# Altium footprint library 43045-1600.PcbLib: 1 footprints
Each footprint in its own frame and in the unit in brackets; x right, y up, seen from the top. Pads: shape width x height; smd on the part's side, far side on the other; paste and mask are expansions set on the pad; w line width, h text height; cw(c..) or ccw(c..) is an arc to the next point about the centre after c.
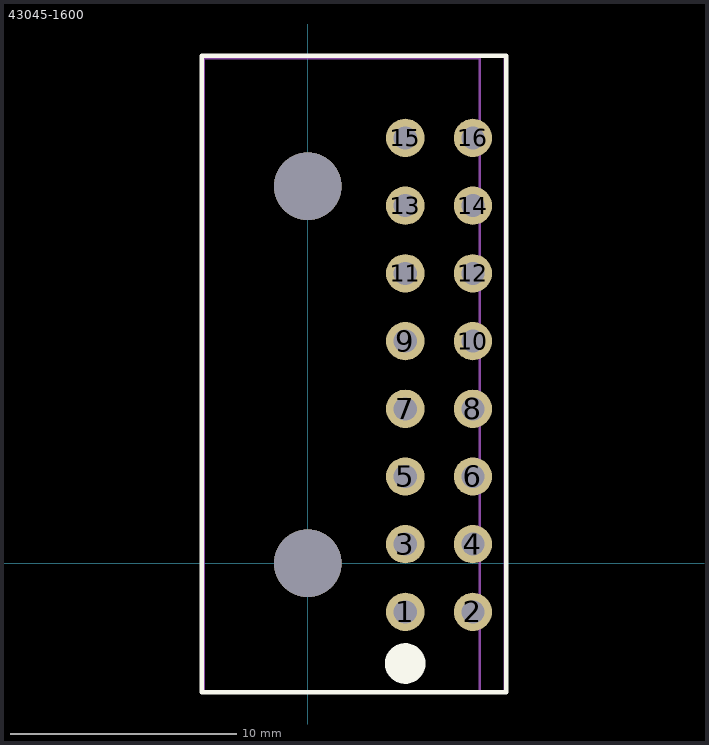
[diagram p0: the footprint, top view; thin cyan lines are the x and y axes]

## 43045-1600 [mm] "Molex Micro-Fit 3.0 2x8"
pads (16):
  round 1.7 hole 1.02: 1(4.32,-2.16) 2(7.32,-2.16) 3(4.32,0.84) 4(7.32,0.84) 5(4.32,3.84) 6(7.32,3.84) 7(4.32,6.84) 8(7.32,6.84) 9(4.32,9.84) 10(7.32,9.84) 11(4.32,12.84) 12(7.32,12.84) 13(4.32,15.84) 14(7.32,15.84) 15(4.32,18.84) 16(7.32,18.84)
via 0,0 diameter 3 hole 3
via 0,16.7 diameter 3 hole 3
Top Overlay:
  circle w1: c4.32,-4.445 r0.4
  lines w0.2: -4.697,-5.716 -4.697,22.478 8.795,22.478 8.795,-5.716 -4.697,-5.716
Top Assembly:
  lines w0.127: -4.618,-5.716 -4.618,22.381 7.622,22.381 7.622,-5.716 -4.618,-5.716
Top Courtyard:
  lines w0.127: -4.697,-5.716 -4.697,22.478 8.745,22.478 8.745,-5.716 -4.697,-5.716
3D body "c-4-794618-6-h-3d.stp": height 8.73, standoff -3.45, extent -4.618,-5.619 7.622,22.381